# EAGLE library part STM32F030CC (library lights)
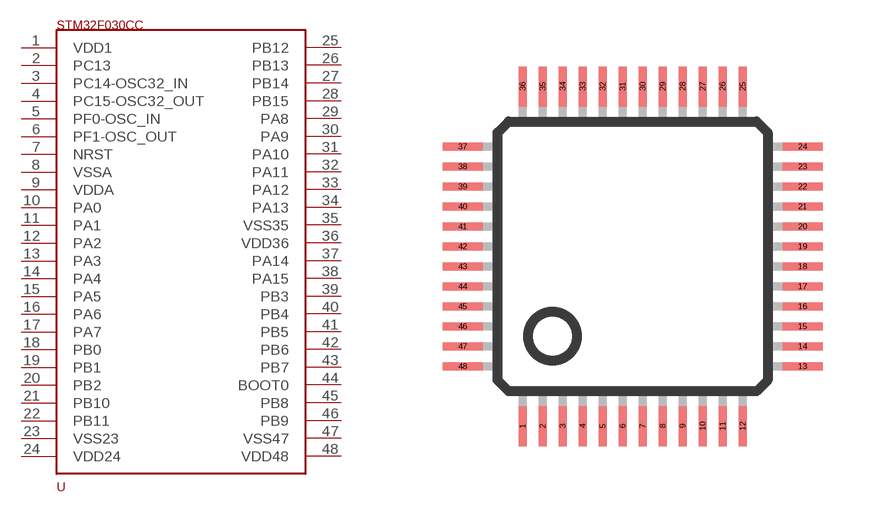
[diagram p0: symbol with the pads of STM32F030CC; footprint STM32F030CC]

Designator prefix -

## STM32F030CC  [STM32F030CC]
1  VDD1
2  PC13
3  PC14-OSC32_IN
4  PC15-OSC32_OUT
5  PF0-OSC_IN
6  PF1-OSC_OUT
7  NRST
8  VSSA
9  VDDA
10  PA0
11  PA1
12  PA2
13  PA3
14  PA4
15  PA5
16  PA6
17  PA7
18  PB0
19  PB1
20  PB2
21  PB10
22  PB11
23  VSS23
24  VDD24
25  PB12
26  PB13
27  PB14
28  PB15
29  PA8
30  PA9
31  PA10
32  PA11
33  PA12
34  PA13
35  VSS35
36  VDD36
37  PA14
38  PA15
39  PB3
40  PB4
41  PB5
42  PB6
43  PB7
44  BOOT0
45  PB8
46  PB9
47  VSS47
48  VDD48

## Footprint STM32F030CC (pad centres in mm)
48-pin plastic LQFP (FPT-48P-M26) www.fma.fujitsu.com/pdf/e713717.pdf
smd 0.2 x 1: 1 -2.75,-4.25; 2 -2.25,-4.25; 3 -1.75,-4.25; 4 -1.25,-4.25; 5 -0.75,-4.25; 6 -0.25,-4.25; 7 0.25,-4.25; 8 0.75,-4.25; 9 1.25,-4.25; 10 1.75,-4.25; 11 2.25,-4.25; 12 2.75,-4.25; 25 2.75,4.25; 26 2.25,4.25; 27 1.75,4.25; 28 1.25,4.25; 29 0.75,4.25; 30 0.25,4.25; 31 -0.25,4.25; 32 -0.75,4.25; 33 -1.25,4.25; 34 -1.75,4.25; 35 -2.25,4.25; 36 -2.75,4.25
smd 1 x 0.2: 13 4.25,-2.75; 14 4.25,-2.25; 15 4.25,-1.75; 16 4.25,-1.25; 17 4.25,-0.75; 18 4.25,-0.25; 19 4.25,0.25; 20 4.25,0.75; 21 4.25,1.25; 22 4.25,1.75; 23 4.25,2.25; 24 4.25,2.75; 37 -4.25,2.75; 38 -4.25,2.25; 39 -4.25,1.75; 40 -4.25,1.25; 41 -4.25,0.75; 42 -4.25,0.25; 43 -4.25,-0.25; 44 -4.25,-0.75; 45 -4.25,-1.25; 46 -4.25,-1.75; 47 -4.25,-2.25; 48 -4.25,-2.75